# Altium schematic symbol library RT9013-15GB(Z00)_2021-08-20.SCHLIB: 1 symbol
Pins are listed as number, name and electrical type; pins without a type are passive.

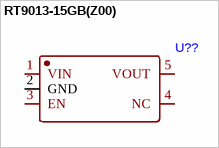
[diagram p0: symbol RT9013-15GB(Z00)]

## RT9013-15GB(Z00)
designator U??
footprint SOT-23-5_L3.0-W1.7-P0.95-LS2.8-BR
pins: 1 VIN, 2 GND, 3 EN, 4 NC, 5 VOUT